# EAGLE library part MPS-3117-006G (library MPS-3117-006G)
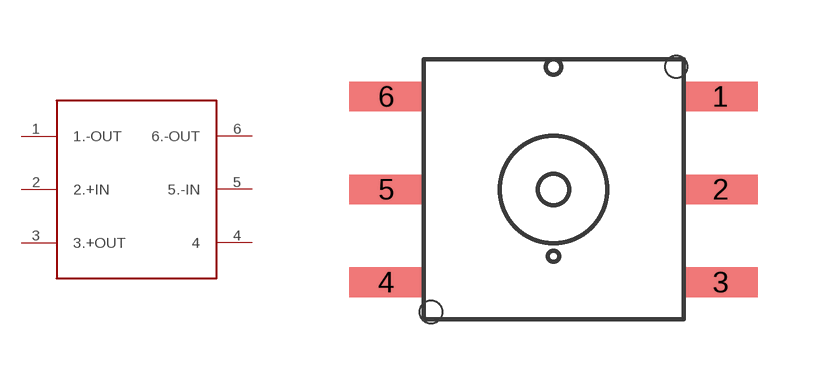
[diagram p0: symbol with the pads of MPS-3117-006G; footprint MPS-3117-006G]

Designator prefix -

## MPS-3117-006G  [MPS-3117-006G]
1  1.-OUT
2  2.+IN
3  3.+OUT
4  4
5  5.-IN
6  6.-OUT

## Footprint MPS-3117-006G (pad centres in mm)
smd 2 x 0.8: 1 8,6; 2 8,3.5; 3 8,1; 4 -1,1; 5 -1,3.5; 6 -1,6
hole 0.6 at 0.2,0.2
hole 0.6 at 6.8,6.8